# Altium schematic symbol library ZXRE160AET5TA.SchLib: 1 symbol
Pins are listed as number, name and electrical type; pins without a type are passive.

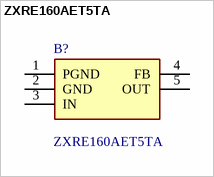
[diagram p0: symbol ZXRE160AET5TA]

## ZXRE160AET5TA
designator B?
Voltage References 0.5V ENH ADJ Prec Shunt REG 5-Term; Manufacturer_Name: Diodes Incorporated; Geometry.Height: 1mm; Mouser Part Number: 522-ZXRE160AET5TA; Mouser Price/Stock: https://www.mouser.co.uk/ProductDetail/Diodes-Incorporated/ZXRE160AET5TA?qs=aXnpsjvrXd3m2N9Ej%2FQI2A%3D%3D; Manufacturer_Part_Number: ZXRE160AET5TA; Datasheet Link: https://www.diodes.com//assets/Datasheets/ZXRE160.pdf
footprint SOT95P280X100-5N
pins: 1 PGND, 2 GND, 3 IN, 4 FB, 5 OUT